# Altium integrated library TS-1187A-B-A-B.IntLib: 1 symbol
Pins are listed as number, name and electrical type; pins without a type are passive.

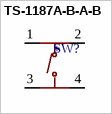
[diagram p0: symbol TS-1187A-B-A-B]

## TS-1187A-B-A-B
designator SW?  (value not drawn)
Tactile Switches. -30C~+85C 1.5mm 1.6N 100,000 cycles 12V 5.1mm 5.1mm 50mA Gold No Round Button SPST Surface Mount,Vertical Without Bracket SMD-4P,5.1x5.1mm Tactile Switches ROHS; Manufacturer: XKB Connection; Component Type: Switches; Design Item ID: TS-1187A-B-A-B; Value: *; JLCPCB Part #: C318884; Manufacturer Part Number: TS-1187A-B-A-B
footprint TS-1187A-B-A-B (SW-SMD_4P-L5.1-W5.1-P3.70-LS6.5-TL_H1.5)
pins: 1 A, 2 B, 3 C, 4 D